# EAGLE library part LMV797MM (library ECE380)
LMV797MM Op amp
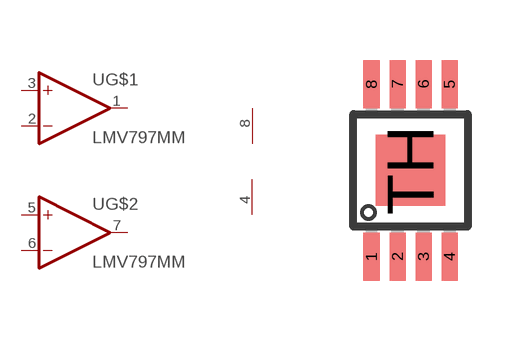
[diagram p4: symbol with the pads of VSSOP-08; footprint VSSOP-08]

Designator prefix -; gates G$1=OPAMP_WO_PINS G$2=OPAMP_WO_PINS G$3=VP_VN

## LMV797MM  [VSSOP-08]
1  G$1:OUT  out
2  G$1:-  in
3  G$1:+  in
4  G$3:VN  in
5  G$2:+  in
6  G$2:-  in
7  G$2:OUT  out
8  G$3:VP  in

## Footprint VSSOP-08 (pad centres in mm)
smd 0.4 x 1.2: 1 -0.975,-2.157; 2 -0.325,-2.157; 3 0.325,-2.157; 4 0.975,-2.157; 5 0.975,2.157; 6 0.325,2.157; 7 -0.325,2.157; 8 -0.975,2.157
smd 1.73 x 1.78: TH 0,0